# EAGLE library part HM15?S (library FansElectronics-Con-DB)
SUB-D
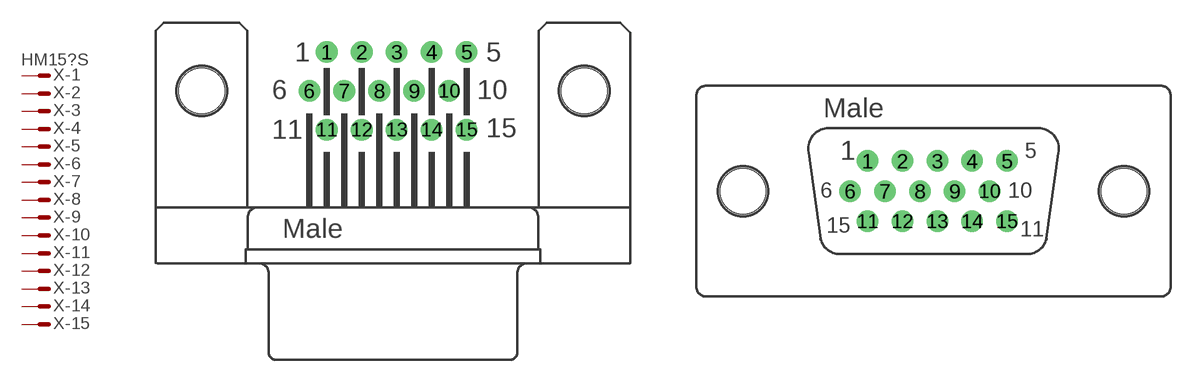
[diagram p48: symbol with the pads of HDM15H; footprints HDM15H, HDM15V]

Designator prefix X; gates -2=M -3=M -4=M -5=M -6=M -7=M -8=M -9=M -10=M -11=M -12=M -13=M -14=M -15=M -1=MV

## HM15HS (OC_FARNELL: unknown; OC_NEWARK: unknown)  [HDM15H]
1  -1:M  pas
2  -2:M  pas
3  -3:M  pas
4  -4:M  pas
5  -5:M  pas
6  -6:M  pas
7  -7:M  pas
8  -8:M  pas
9  -9:M  pas
10  -10:M  pas
11  -11:M  pas
12  -12:M  pas
13  -13:M  pas
14  -14:M  pas
15  -15:M  pas

## HM15VS (OC_FARNELL: unknown; OC_NEWARK: unknown)  [HDM15V]
Pads as for HDM15H

## Footprint HDM15H (pad centres in mm)
SUB-D
drill 0.9: 1 -4.329,2.54; 2 -2.043,2.54; 3 0.243,2.54; 4 2.529,2.54; 5 4.815,2.54; 6 -5.472,0; 7 -3.186,0; 8 -0.9,0; 9 1.386,0; 10 3.672,0; 11 -4.329,-2.54; 12 -2.043,-2.54; 13 0.243,-2.54; 14 2.529,-2.54; 15 4.815,-2.54
hole 3 at -12.5,0
hole 3 at 12.5,0

## Footprint HDM15V (pad centres in mm)
SUB-D
drill 0.9: 1 -4.324,1.98; 2 -2.038,1.98; 3 0.248,1.98; 4 2.534,1.98; 5 4.82,1.98; 6 -5.467,0; 7 -3.181,0; 8 -0.895,0; 9 1.391,0; 10 3.677,0; 11 -4.324,-1.98; 12 -2.038,-1.98; 13 0.248,-1.98; 14 2.534,-1.98; 15 4.82,-1.98
hole 3 at -12.5,0
hole 3 at 12.5,0